# EAGLE library part HEADER-7P-HALF-HOLE (library Connector-new)
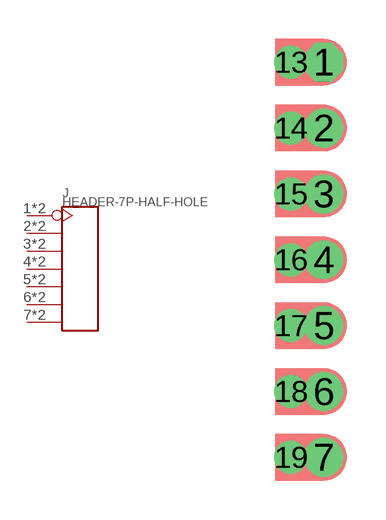
[diagram p0: symbol with the pads of H7-HALF-HOLE-2.54; footprint H7-HALF-HOLE-2.54]

Designator prefix J

## HEADER-7P-HALF-HOLE-2.54  [H7-HALF-HOLE-2.54]
1  1
2  2
3  3
4  4
5  5
6  6
7  7
13  1
14  2
15  3
16  4
17  5
18  6
19  7

## Footprint H7-HALF-HOLE-2.54 (pad centres in mm)
drill 0.85 pad 1.5 octagon: 1 0,7.62
drill 0.85 pad 1.5: 2 0,5.08; 3 0,2.54; 4 0,0; 5 0,-2.54; 6 0,-5.08; 7 0,-7.62
drill 0.7 pad 1.27: 13 -1.27,7.62; 14 -1.27,5.08; 15 -1.27,2.54; 16 -1.27,0; 17 -1.27,-2.54; 18 -1.27,-5.08; 19 -1.27,-7.62